# Altium footprint library LPHT-08-16-L-RT1-GP.PcbLib: 1 footprints
Each footprint in its own frame and in the unit in brackets; x right, y up, seen from the top. Pads: shape width x height; smd on the part's side, far side on the other; paste and mask are expansions set on the pad; w line width, h text height; cw(c..) or ccw(c..) is an arc to the next point about the centre after c.
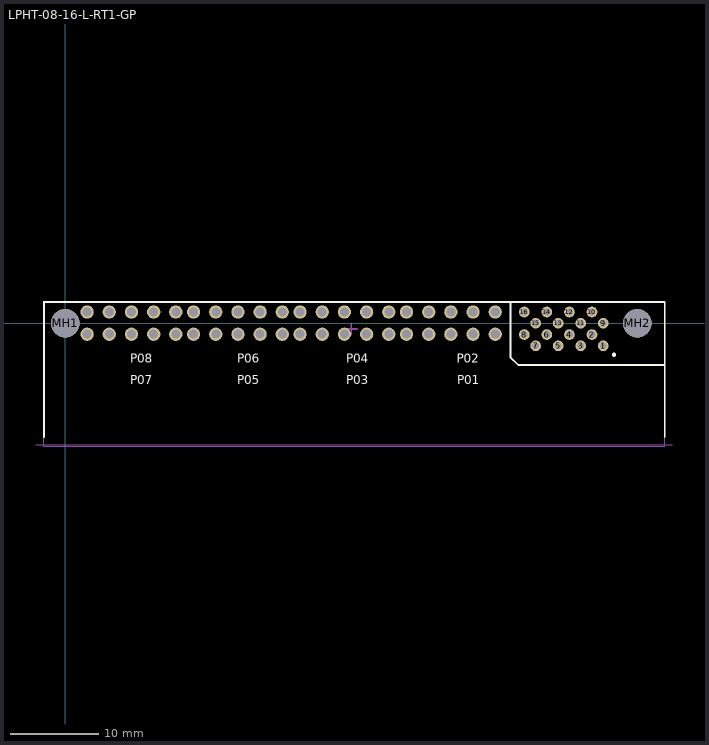
[diagram p0: the footprint, top view; thin cyan lines are the x and y axes]

## LPHT-08-16-L-RT1-GP [mm]
pads (58):
  round 1.2 hole 0.762 mask+0.051: 1(60.63,-2.54) 2(59.36,-1.27) 3(58.09,-2.54) 4(56.82,-1.27) 5(55.55,-2.54) 6(54.28,-1.27) 7(53.01,-2.54) 8(51.74,-1.27) 9(60.63,0) 10(59.36,1.27) 11(58.09,0) 12(56.82,1.27) 13(55.55,0) 14(54.28,1.27) 15(53.01,0) 16(51.74,1.27)
  round 3.18 hole 3.18 unplated mask+0: MH1(0,0) MH2(64.47,0)
  round 1.5 hole 1.016 mask+0.051: P01(38.46,-1.23) P01(40.96,-1.23) P01(43.46,-1.23) P01(45.96,-1.23) P01(48.46,-1.23) P02(38.46,1.27) P02(40.96,1.27) P02(43.46,1.27) P02(45.96,1.27) P02(48.46,1.27) P03(26.46,-1.23) P03(28.96,-1.23) P03(31.46,-1.23) P03(33.96,-1.23) P03(36.46,-1.23) P04(26.46,1.27) P04(28.96,1.27) P04(31.46,1.27) P04(33.96,1.27) P04(36.46,1.27) P05(14.46,-1.23) P05(16.96,-1.23) P05(19.46,-1.23) P05(21.96,-1.23) P05(24.46,-1.23) P06(14.46,1.27) P06(16.96,1.27) P06(19.46,1.27) P06(21.96,1.27) P06(24.46,1.27) P07(2.46,-1.23) P07(4.96,-1.23) P07(7.46,-1.23) P07(9.96,-1.23) P07(12.46,-1.23) P08(2.46,1.27) P08(4.96,1.27) P08(7.46,1.27) P08(9.96,1.27) P08(12.46,1.27)
Top Overlay:
  circle w0.254: c61.849,-3.556 r0.117
  lines w0.203: -2.413,-12.827 -2.413,2.413 67.564,2.413 67.564,-12.827 ; 50.165,2.413 50.165,-3.81 51.054,-4.699 67.564,-4.699
  text "P01" at 44.173,-6.858 h1
  text "P02" at 44.133,-4.445 h1
  text "P03" at 31.687,-6.858 h1
  text "P04" at 31.687,-4.445 h1
  text "P05" at 19.368,-6.858 h1
  text "P06" at 19.368,-4.445 h1
  text "P07" at 7.303,-6.858 h1
  text "P08" at 7.303,-4.445 h1
Mechanical 2:
  lines w0.127: -3.32,-13.68 0,-13.68 68.4,-13.68
  text "Board Edge" at -3,-13 h1.78
Top Designator:
  text ".Designator" at 24.922,-6.223 h1.52
Mechanical 13:
  lines w0.127: -2.413,-13.843 -2.413,2.413 67.564,2.413 67.564,-13.843 -2.413,-13.843
Mechanical 15:
  lines w0.203: 31.6,-0.635 32.235,-0.635 ; 32.235,-1.27 32.235,-0.635 ; 32.235,0 32.235,-0.635 ; 32.87,-0.635 32.235,-0.635
3D body "LPHT-08-16-L-RT1-GP.stp": height 7.5, standoff -3.24, extent -2.406,-13.867 67.564,2.413